# Altium schematic symbol library MolexMicroFit_14-pin.SchLib: 1 symbol
Pins are listed as number, name and electrical type; pins without a type are passive.

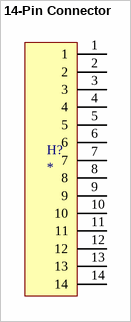
[diagram p0: symbol 14-Pin Connector]

## 14-Pin Connector
designator H?
Micro-Fit 3.0 Right-Angle Header, 3.00mm Pitch, Dual Row, 14 Circuits, with Solder Tab, Tin, Glow-Wire Capable, Black (430451409) + Micro-Fit 3.0 Receptacle Housing, Dual Row, 14 Circuits, UL 94V-0, Low-Halogen, Black (430251400)
footprint CellConnector (Molex 14-Pin, Right Angle, Tin Plated)
pins: 1, 2, 3, 4, 5, 6, 7, 8, 9, 10, 11, 12, 13, 14